# Altium footprint library con-wago.PCBLIB: 167 footprints (part 8 of 11)
Each footprint in its own frame and in the unit in brackets; x right, y up, seen from the top. Pads: shape width x height; smd on the part's side, far side on the other; paste and mask are expansions set on the pad; w line width, h text height; cw(c..) or ccw(c..) is an arc to the next point about the centre after c.
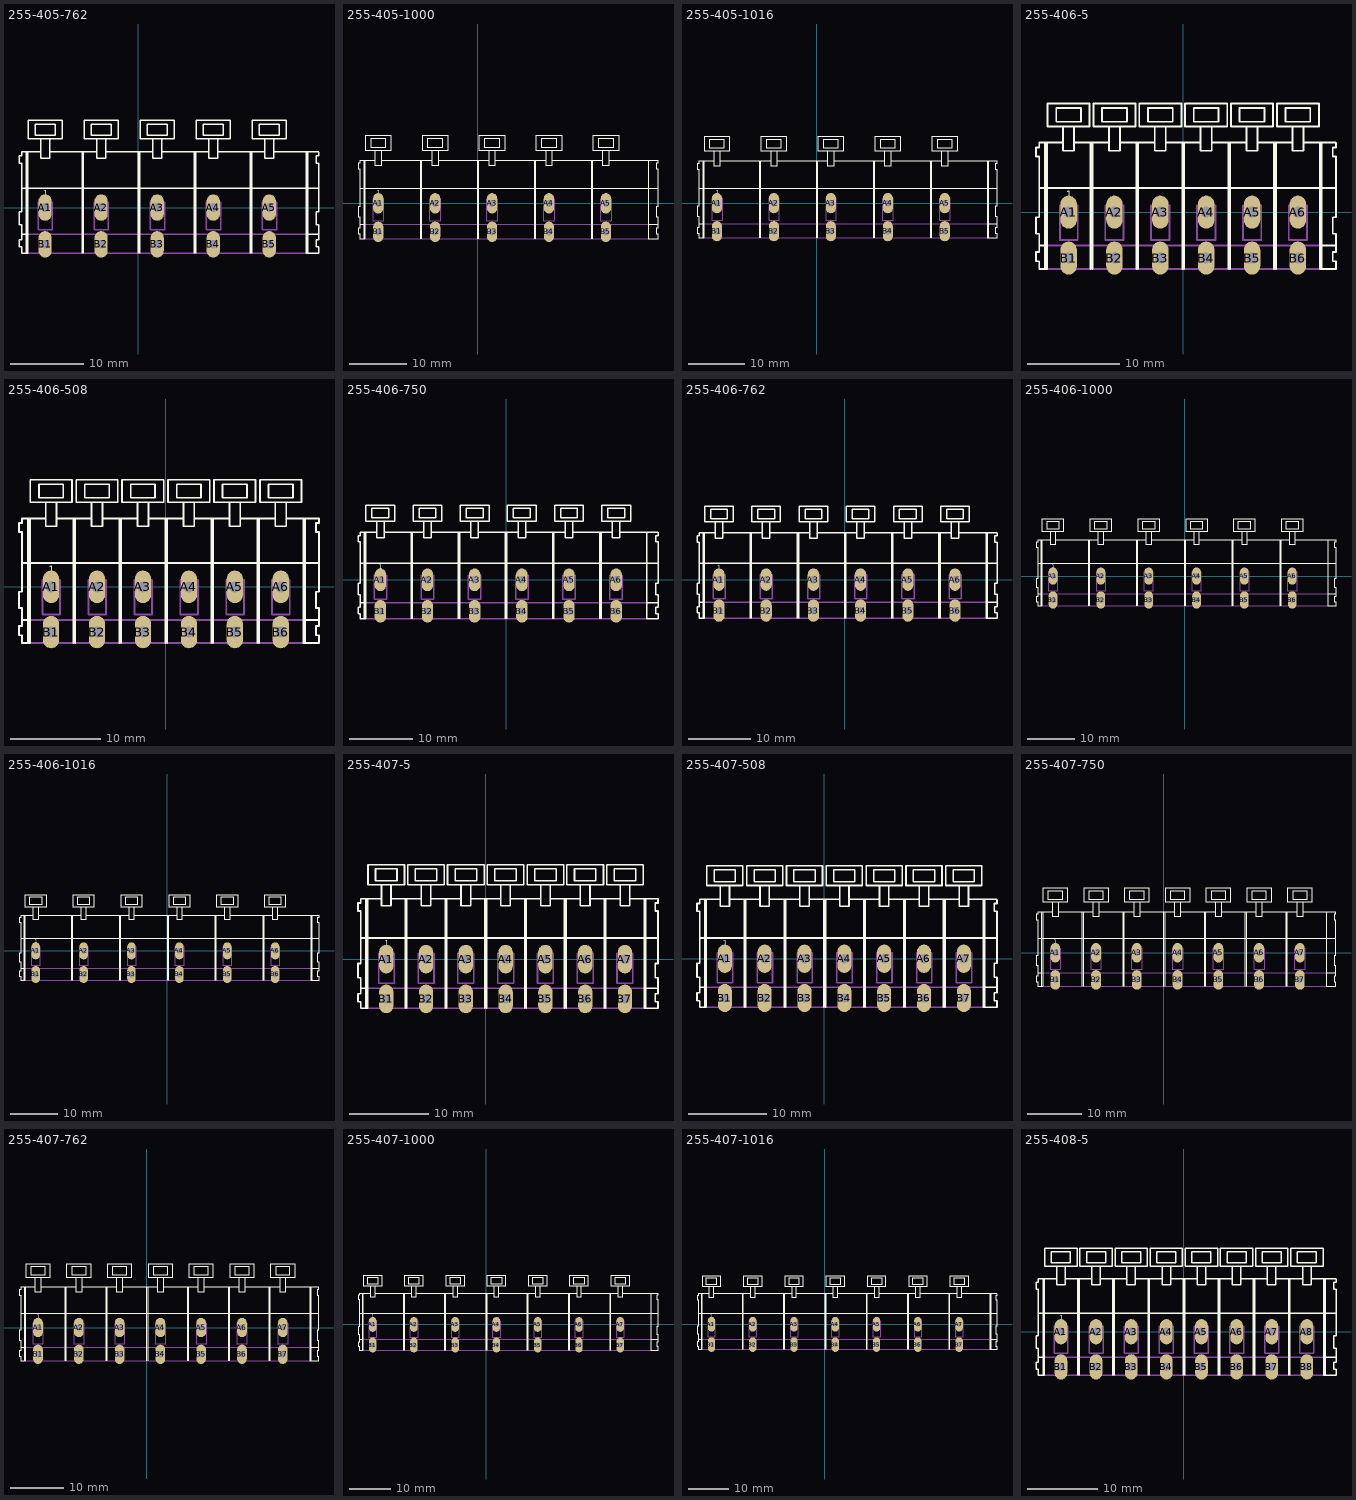
[diagram p7: the footprints below, top view; thin cyan lines are the x and y axes]

## 255-405-762 [mm]
pads (10):
  oval 1.8x3.6 hole 1.2: A1(-12.7,0) A2(-5.08,0) A3(2.54,0) A4(10.16,0) A5(17.78,0) B1(-12.7,-5) B2(-5.08,-5) B3(2.54,-5) B4(10.16,-5) B5(17.78,-5)
Top Overlay:
  lines w0.203: -15.9,-3.65 -15.2,-3.65 ; -15.85,2.65 24.5,2.65 ; -15.25,7.55 -15.25,-6.2 ; -15.05,7.55 -15.05,-6.2 -15.25,-6.2 ; -13.325,7.575 -15.9,7.575 -15.9,7.05 -16.25,7.05 -16.25,6.05 -15.9,6.05 -15.9,-0.55 -16.25,-0.55 -16.25,-2.35 -15.9,-2.35 -15.9,-4.35 -16.25,-4.35 -16.25,-5.35 -15.9,-5.35 -15.9,-6.2 -15.25,-6.2 ; -12.075,7.575 -5.701,7.575 ; -7.68,-6.2 -7.68,7.55 ; -7.48,-6.2 -7.48,7.55 ; -4.455,7.575 1.919,7.575 ; -0.06,-6.2 -0.06,7.55 ; 0.14,-6.2 0.14,7.55 ; 3.165,7.575 9.539,7.575 ; 7.56,-6.2 7.56,7.55 ; 7.76,-6.2 7.76,7.55 ; 10.785,7.575 17.159,7.575 ; 15.18,-6.2 15.18,7.55 ; 15.38,-6.2 15.38,7.55 ; 18.405,7.575 24.525,7.575 ; 22.8,7.55 22.8,-6.2 24.55,-6.2 24.55,-5.35 24.2,-5.35 24.2,-4.35 24.55,-4.35 24.55,-3.65 ; 22.85,-3.65 24.55,-3.65 ; 23,-6.2 23,7.55 ; 24.55,7.55 24.55,7.05 24.2,7.05 24.2,6.05 24.55,6.05 24.55,-0.55 24.2,-0.55 24.2,-2.35 24.55,-2.35 24.55,-3.65 ; -13.3,9.35 -15,9.35 -15,11.85 -10.4,11.85 -10.4,9.35 -12.1,9.35 ; -13.3,9.35 -12.1,9.35 ; -13.3,9.35 -13.3,6.7 -12.1,6.7 -12.1,9.35 ; -5.68,9.35 -7.38,9.35 -7.38,11.85 -2.78,11.85 -2.78,9.35 -4.48,9.35 ; -5.68,9.35 -4.48,9.35 ; -5.68,9.35 -5.68,6.7 -4.48,6.7 -4.48,9.35 ; 1.94,9.35 0.24,9.35 0.24,11.85 4.84,11.85 4.84,9.35 3.14,9.35 ; 1.94,9.35 3.14,9.35 ; 1.94,9.35 1.94,6.7 3.14,6.7 3.14,9.35 ; 9.56,9.35 7.86,9.35 7.86,11.85 12.46,11.85 12.46,9.35 10.76,9.35 ; 9.56,9.35 10.76,9.35 ; 9.56,9.35 9.56,6.7 10.76,6.7 10.76,9.35 ; 17.18,9.35 15.48,9.35 15.48,11.85 20.08,11.85 20.08,9.35 18.38,9.35 ; 17.18,9.35 18.38,9.35 ; 17.18,9.35 17.18,6.7 18.38,6.7 18.38,9.35 ; -14.05,9.85 -14.05,11.35 -11.35,11.35 -11.35,9.85 -14.05,9.85 ; -6.43,9.85 -6.43,11.35 -3.73,11.35 -3.73,9.85 -6.43,9.85 ; 1.19,9.85 1.19,11.35 3.89,11.35 3.89,9.85 1.19,9.85 ; 8.81,9.85 8.81,11.35 11.51,11.35 11.51,9.85 8.81,9.85 ; 16.43,9.85 16.43,11.35 19.13,11.35 19.13,9.85 16.43,9.85
  text "1" at -12.95,1.35 h1.26
Mechanical 16:
  lines w0.203: -15.2,-3.65 22.8,-3.65 ; -15.05,-6.2 22.8,-6.2 ; -13.65,-3.05 -13.65,0.75 -11.7,0.75 -11.7,-3.05 -13.65,-3.05 ; -6.03,-3.05 -6.03,0.75 -4.08,0.75 -4.08,-3.05 -6.03,-3.05 ; 1.59,-3.05 1.59,0.75 3.54,0.75 3.54,-3.05 1.59,-3.05 ; 9.21,-3.05 9.21,0.75 11.16,0.75 11.16,-3.05 9.21,-3.05 ; 16.83,-3.05 16.83,0.75 18.78,0.75 18.78,-3.05 16.83,-3.05

## 255-405-1000 [mm]
pads (10):
  oval 1.8x3.6 hole 1.2: A1(-17.5,0) A2(-7.5,0) A3(2.5,0) A4(12.5,0) A5(22.5,0) B1(-17.5,-5) B2(-7.5,-5) B3(2.5,-5) B4(12.5,-5) B5(22.5,-5)
Top Overlay:
  lines w0.203: -20.7,-3.65 -20,-3.65 ; -20.65,2.65 31.6,2.65 ; -20.05,7.55 -20.05,-6.2 ; -19.85,7.55 -19.85,-6.2 -20.05,-6.2 ; -18.125,7.575 -20.7,7.575 -20.7,7.05 -21.05,7.05 -21.05,6.05 -20.7,6.05 -20.7,-0.55 -21.05,-0.55 -21.05,-2.35 -20.7,-2.35 -20.7,-4.35 -21.05,-4.35 -21.05,-5.35 -20.7,-5.35 -20.7,-6.2 -20.05,-6.2 ; -16.825,7.575 -8.125,7.575 ; -10.1,-6.2 -10.1,7.55 ; -9.9,-6.2 -9.9,7.55 ; -6.825,7.575 1.875,7.575 ; -0.1,-6.2 -0.1,7.55 ; 0.1,-6.2 0.1,7.55 ; 3.175,7.575 11.875,7.575 ; 9.9,-6.2 9.9,7.55 ; 10.1,-6.2 10.1,7.55 ; 13.175,7.575 21.875,7.575 ; 19.9,-6.2 19.9,7.55 ; 20.1,-6.2 20.1,7.55 ; 23.125,7.575 31.625,7.575 ; 29.9,7.55 29.9,-6.2 31.65,-6.2 31.65,-5.35 31.3,-5.35 31.3,-4.35 31.65,-4.35 31.65,-3.65 ; 29.95,-3.65 31.65,-3.65 ; 31.65,7.55 31.65,7.05 31.3,7.05 31.3,6.05 31.65,6.05 31.65,-0.55 31.3,-0.55 31.3,-2.35 31.65,-2.35 31.65,-3.65 ; -18.1,9.35 -19.8,9.35 -19.8,11.85 -15.2,11.85 -15.2,9.35 -16.9,9.35 ; -18.1,9.35 -16.9,9.35 ; -18.1,9.35 -18.1,6.7 -16.9,6.7 -16.9,9.35 ; -8.1,9.35 -9.8,9.35 -9.8,11.85 -5.2,11.85 -5.2,9.35 -6.9,9.35 ; -8.1,9.35 -6.9,9.35 ; -8.1,9.35 -8.1,6.7 -6.9,6.7 -6.9,9.35 ; 1.9,9.35 0.2,9.35 0.2,11.85 4.8,11.85 4.8,9.35 3.1,9.35 ; 1.9,9.35 3.1,9.35 ; 1.9,9.35 1.9,6.7 3.1,6.7 3.1,9.35 ; 11.9,9.35 10.2,9.35 10.2,11.85 14.8,11.85 14.8,9.35 13.1,9.35 ; 11.9,9.35 13.1,9.35 ; 11.9,9.35 11.9,6.7 13.1,6.7 13.1,9.35 ; 21.9,9.35 20.2,9.35 20.2,11.85 24.8,11.85 24.8,9.35 23.1,9.35 ; 21.9,9.35 23.1,9.35 ; 21.9,9.35 21.9,6.7 23.1,6.7 23.1,9.35 ; -18.85,9.85 -18.85,11.35 -16.15,11.35 -16.15,9.85 -18.85,9.85 ; -8.85,9.85 -8.85,11.35 -6.15,11.35 -6.15,9.85 -8.85,9.85 ; 1.15,9.85 1.15,11.35 3.85,11.35 3.85,9.85 1.15,9.85 ; 11.15,9.85 11.15,11.35 13.85,11.35 13.85,9.85 11.15,9.85 ; 21.15,9.85 21.15,11.35 23.85,11.35 23.85,9.85 21.15,9.85
  text "1" at -17.75,1.35 h1.26
Mechanical 16:
  lines w0.203: -20,-3.65 29.9,-3.65 ; -19.85,-6.2 29.9,-6.2 ; -18.45,-3.05 -18.45,0.75 -16.5,0.75 -16.5,-3.05 -18.45,-3.05 ; -8.5,-3.05 -8.5,0.75 -6.5,0.75 -6.5,-3.05 -8.5,-3.05 ; 1.5,-3.05 1.5,0.75 3.5,0.75 3.5,-3.05 1.5,-3.05 ; 11.5,-3.05 11.5,0.75 13.5,0.75 13.5,-3.05 11.5,-3.05 ; 21.5,-3.05 21.5,0.75 23.5,0.75 23.5,-3.05 21.5,-3.05

## 255-405-1016 [mm]
pads (10):
  oval 1.8x3.6 hole 1.2: A1(-17.78,0) A2(-7.62,0) A3(2.54,0) A4(12.7,0) A5(22.86,0) B1(-17.78,-5) B2(-7.62,-5) B3(2.54,-5) B4(12.7,-5) B5(22.86,-5)
Top Overlay:
  lines w0.203: -20.98,-3.65 -20.28,-3.65 ; -20.93,2.65 32.12,2.65 ; -20.33,7.55 -20.33,-6.2 ; -20.13,7.55 -20.13,-6.2 -20.33,-6.2 ; -18.405,7.575 -20.98,7.575 -20.98,7.05 -21.33,7.05 -21.33,6.05 -20.98,6.05 -20.98,-0.55 -21.33,-0.55 -21.33,-2.35 -20.98,-2.35 -20.98,-4.35 -21.33,-4.35 -21.33,-5.35 -20.98,-5.35 -20.98,-6.2 -20.33,-6.2 ; -17.155,7.575 -8.241,7.575 ; -10.22,-6.2 -10.22,7.55 ; -10.02,-6.2 -10.02,7.55 ; -6.995,7.575 1.919,7.575 ; -0.06,-6.2 -0.06,7.55 ; 0.14,-6.2 0.14,7.55 ; 3.165,7.575 12.079,7.575 ; 10.1,-6.2 10.1,7.55 ; 10.3,-6.2 10.3,7.55 ; 13.325,7.575 22.239,7.575 ; 20.26,-6.2 20.26,7.55 ; 20.46,-6.2 20.46,7.55 ; 23.485,7.575 32.145,7.575 ; 30.42,7.55 30.42,-6.2 32.17,-6.2 32.17,-5.35 31.82,-5.35 31.82,-4.35 32.17,-4.35 32.17,-3.65 ; 30.47,-3.65 32.17,-3.65 ; 30.62,-6.2 30.62,7.55 ; 32.17,7.55 32.17,7.05 31.82,7.05 31.82,6.05 32.17,6.05 32.17,-0.55 31.82,-0.55 31.82,-2.35 32.17,-2.35 32.17,-3.65 ; -18.38,9.35 -20.08,9.35 -20.08,11.85 -15.48,11.85 -15.48,9.35 -17.18,9.35 ; -18.38,9.35 -17.18,9.35 ; -18.38,9.35 -18.38,6.7 -17.18,6.7 -17.18,9.35 ; -8.22,9.35 -9.92,9.35 -9.92,11.85 -5.32,11.85 -5.32,9.35 -7.02,9.35 ; -8.22,9.35 -7.02,9.35 ; -8.22,9.35 -8.22,6.7 -7.02,6.7 -7.02,9.35 ; 1.94,9.35 0.24,9.35 0.24,11.85 4.84,11.85 4.84,9.35 3.14,9.35 ; 1.94,9.35 3.14,9.35 ; 1.94,9.35 1.94,6.7 3.14,6.7 3.14,9.35 ; 12.1,9.35 10.4,9.35 10.4,11.85 15,11.85 15,9.35 13.3,9.35 ; 12.1,9.35 13.3,9.35 ; 12.1,9.35 12.1,6.7 13.3,6.7 13.3,9.35 ; 22.26,9.35 20.56,9.35 20.56,11.85 25.16,11.85 25.16,9.35 23.46,9.35 ; 22.26,9.35 23.46,9.35 ; 22.26,9.35 22.26,6.7 23.46,6.7 23.46,9.35 ; -19.13,9.85 -19.13,11.35 -16.43,11.35 -16.43,9.85 -19.13,9.85 ; -8.97,9.85 -8.97,11.35 -6.27,11.35 -6.27,9.85 -8.97,9.85 ; 1.19,9.85 1.19,11.35 3.89,11.35 3.89,9.85 1.19,9.85 ; 11.35,9.85 11.35,11.35 14.05,11.35 14.05,9.85 11.35,9.85 ; 21.51,9.85 21.51,11.35 24.21,11.35 24.21,9.85 21.51,9.85
  text "1" at -18.03,1.35 h1.26
Mechanical 16:
  lines w0.203: -20.28,-3.65 30.42,-3.65 ; -20.13,-6.2 30.42,-6.2 ; -18.73,-3.05 -18.73,0.75 -16.78,0.75 -16.78,-3.05 -18.73,-3.05 ; -8.57,-3.05 -8.57,0.75 -6.62,0.75 -6.62,-3.05 -8.57,-3.05 ; 1.59,-3.05 1.59,0.75 3.54,0.75 3.54,-3.05 1.59,-3.05 ; 11.75,-3.05 11.75,0.75 13.7,0.75 13.7,-3.05 11.75,-3.05 ; 21.91,-3.05 21.91,0.75 23.86,0.75 23.86,-3.05 21.91,-3.05

## 255-406-5 [mm]
pads (12):
  oval 1.8x3.6 hole 1.2: A1(-12.5,0) A2(-7.5,0) A3(-2.5,0) A4(2.5,0) A5(7.5,0) A6(12.5,0) B1(-12.5,-5) B2(-7.5,-5) B3(-2.5,-5) B4(2.5,-5) B5(7.5,-5) B6(12.5,-5)
Top Overlay:
  drawing of 156 lines, arcs and shapes, not listed
  text "1" at -12.75,1.35 h1.26
Mechanical 16:
  lines w0.203: -15,-3.65 14.9,-3.65 ; -14.85,-6.2 14.9,-6.2 ; -13.45,-3.05 -13.45,0.75 -11.5,0.75 -11.5,-3.05 -13.45,-3.05 ; -8.5,-3.05 -8.5,0.75 -6.5,0.75 -6.5,-3.05 -8.5,-3.05 ; -3.5,-3.05 -3.5,0.75 -1.5,0.75 -1.5,-3.05 -3.5,-3.05 ; 1.5,-3.05 1.5,0.75 3.5,0.75 3.5,-3.05 1.5,-3.05 ; 6.5,-3.05 6.5,0.75 8.5,0.75 8.5,-3.05 6.5,-3.05 ; 11.5,-3.05 11.5,0.75 13.5,0.75 13.5,-3.05 11.5,-3.05

## 255-406-508 [mm]
pads (12):
  oval 1.8x3.6 hole 1.2: A1(-12.7,0) A2(-7.62,0) A3(-2.54,0) A4(2.54,0) A5(7.62,0) A6(12.7,0) B1(-12.7,-5) B2(-7.62,-5) B3(-2.54,-5) B4(2.54,-5) B5(7.62,-5) B6(12.7,-5)
Top Overlay:
  lines w0.203: -15.9,-3.65 -15.2,-3.65 ; -15.85,2.65 -10.77,2.65 ; -15.25,7.55 -15.25,-6.2 ; -15.05,7.55 -15.05,-6.2 -15.25,-6.2 ; -13.325,7.575 -15.9,7.575 -15.9,7.05 -16.25,7.05 -16.25,6.05 -15.9,6.05 -15.9,-0.55 -16.25,-0.55 -16.25,-2.35 -15.9,-2.35 -15.9,-4.35 -16.25,-4.35 -16.25,-5.35 -15.9,-5.35 -15.9,-6.2 -15.25,-6.2 ; -12.075,7.575 -8.241,7.575 ; -10.22,-6.2 -10.22,2.65 ; -10.22,7.55 -10.22,2.65 ; -10.02,-6.2 -10.02,7.55 ; -6.995,7.575 -3.15,7.575 ; -5.69,2.65 -0.06,2.65 ; -5.14,-6.2 -5.14,2.65 ; -5.14,7.55 -5.14,2.65 ; -4.94,-6.2 -4.94,7.55 ; -1.915,7.575 1.93,7.575 ; -0.61,2.65 5.02,2.65 ; -0.06,-6.2 -0.06,2.65 ; -0.06,7.55 -0.06,2.65 ; 0.14,-6.2 0.14,7.55 ; 3.165,7.575 7.01,7.575 ; 4.47,2.65 10.1,2.65 ; 5.02,-6.2 5.02,2.65 ; 5.02,7.55 5.02,2.65 ; 5.22,-6.2 5.22,7.55 ; 8.245,7.575 12.09,7.575 ; 10.1,-6.2 10.1,2.65 ; 10.1,7.55 10.1,2.65 ; 10.3,-6.2 10.3,7.55 ; 13.31,7.575 16.905,7.575 ; 15.18,7.55 15.18,2.65 ; 15.23,-3.65 16.93,-3.65 ; 15.38,-6.2 15.38,7.55 ; 16.88,2.65 15.18,2.65 ; 16.93,7.55 16.93,7.05 16.58,7.05 16.58,6.05 16.93,6.05 16.93,-0.55 16.58,-0.55 16.58,-2.35 16.93,-2.35 16.93,-3.65 ; -13.3,9.35 -15,9.35 -15,11.85 -10.4,11.85 -10.4,9.35 -12.1,9.35 ; -13.3,9.35 -12.1,9.35 ; -13.3,9.35 -13.3,6.7 -12.1,6.7 -12.1,9.35 ; -10.77,2.65 -10.22,2.65 ; -10.77,2.65 -5.14,2.65 ; -10.22,2.65 -5.14,2.65 ; -8.22,9.35 -9.92,9.35 -9.92,11.85 -5.32,11.85 -5.32,9.35 -7.02,9.35 ; -8.22,9.35 -7.02,9.35 ; -8.22,9.35 -8.22,6.7 -7.02,6.7 -7.02,9.35 ; -5.14,2.65 15.18,2.65 ; -5.14,2.65 -0.06,2.65 ; -3.14,9.35 -4.84,9.35 -4.84,11.85 -0.24,11.85 -0.24,9.35 -1.94,9.35 ; -3.14,9.35 -1.94,9.35 ; -3.14,9.35 -3.14,6.7 -1.94,6.7 -1.94,9.35 ; -0.06,2.65 5.02,2.65 ; 1.94,9.35 0.24,9.35 0.24,11.85 4.84,11.85 4.84,9.35 3.14,9.35 ; 1.94,9.35 3.14,9.35 ; 1.94,9.35 1.94,6.7 3.14,6.7 3.14,9.35 ; 5.02,2.65 10.1,2.65 ; 7.02,9.35 5.32,9.35 5.32,11.85 9.92,11.85 9.92,9.35 8.22,9.35 ; 7.02,9.35 8.22,9.35 ; 7.02,9.35 7.02,6.7 8.22,6.7 8.22,9.35 ; 12.1,9.35 10.4,9.35 10.4,11.85 15,11.85 15,9.35 13.3,9.35 ; 12.1,9.35 13.3,9.35 ; 12.1,9.35 12.1,6.7 13.3,6.7 13.3,9.35 ; 15.18,2.65 15.18,-6.2 16.93,-6.2 16.93,-5.35 16.58,-5.35 16.58,-4.35 16.93,-4.35 16.93,-3.65 ; -14.05,9.85 -14.05,11.35 -11.35,11.35 -11.35,9.85 -14.05,9.85 ; -8.97,9.85 -8.97,11.35 -6.27,11.35 -6.27,9.85 -8.97,9.85 ; -3.89,9.85 -3.89,11.35 -1.19,11.35 -1.19,9.85 -3.89,9.85 ; 1.19,9.85 1.19,11.35 3.89,11.35 3.89,9.85 1.19,9.85 ; 6.27,9.85 6.27,11.35 8.97,11.35 8.97,9.85 6.27,9.85 ; 11.35,9.85 11.35,11.35 14.05,11.35 14.05,9.85 11.35,9.85
  text "1" at -12.95,1.35 h1.26
Mechanical 16:
  lines w0.203: -15.2,-3.65 15.18,-3.65 ; -15.05,-6.2 15.18,-6.2 ; -13.65,-3.05 -13.65,0.75 -11.7,0.75 -11.7,-3.05 -13.65,-3.05 ; -8.57,-3.05 -8.57,0.75 -6.62,0.75 -6.62,-3.05 -8.57,-3.05 ; -3.49,-3.05 -3.49,0.75 -1.54,0.75 -1.54,-3.05 -3.49,-3.05 ; 1.59,-3.05 1.59,0.75 3.54,0.75 3.54,-3.05 1.59,-3.05 ; 6.67,-3.05 6.67,0.75 8.62,0.75 8.62,-3.05 6.67,-3.05 ; 11.75,-3.05 11.75,0.75 13.7,0.75 13.7,-3.05 11.75,-3.05

## 255-406-750 [mm]
pads (12):
  oval 1.8x3.6 hole 1.2: A1(-20,0) A2(-12.5,0) A3(-5,0) A4(2.5,0) A5(10,0) A6(17.5,0) B1(-20,-5) B2(-12.5,-5) B3(-5,-5) B4(2.5,-5) B5(10,-5) B6(17.5,-5)
Top Overlay:
  lines w0.203: -23.2,-3.65 -22.5,-3.65 ; -23.15,2.65 24.1,2.65 ; -22.55,7.55 -22.55,-6.2 ; -22.35,7.55 -22.35,-6.2 -22.55,-6.2 ; -20.625,7.575 -23.2,7.575 -23.2,7.05 -23.55,7.05 -23.55,6.05 -23.2,6.05 -23.2,-0.55 -23.55,-0.55 -23.55,-2.35 -23.2,-2.35 -23.2,-4.35 -23.55,-4.35 -23.55,-5.35 -23.2,-5.35 -23.2,-6.2 -22.55,-6.2 ; -19.325,7.575 -13.125,7.575 ; -15.1,-6.2 -15.1,7.55 ; -14.9,-6.2 -14.9,7.55 ; -11.825,7.575 -5.625,7.575 ; -7.6,-6.2 -7.6,7.55 ; -7.4,-6.2 -7.4,7.55 ; -4.325,7.575 1.875,7.575 ; -0.1,-6.2 -0.1,7.55 ; 0.1,-6.2 0.1,7.55 ; 3.175,7.575 9.375,7.575 ; 7.4,-6.2 7.4,7.55 ; 7.6,-6.2 7.6,7.55 ; 10.675,7.575 16.875,7.575 ; 14.9,-6.2 14.9,7.55 ; 15.1,-6.2 15.1,7.55 ; 18.125,7.575 24.125,7.575 ; 22.4,7.55 22.4,-6.2 24.15,-6.2 24.15,-5.35 23.8,-5.35 23.8,-4.35 24.15,-4.35 24.15,-3.65 ; 22.45,-3.65 24.15,-3.65 ; 24.15,7.55 24.15,7.05 23.8,7.05 23.8,6.05 24.15,6.05 24.15,-0.55 23.8,-0.55 23.8,-2.35 24.15,-2.35 24.15,-3.65 ; -20.6,9.35 -22.3,9.35 -22.3,11.85 -17.7,11.85 -17.7,9.35 -19.4,9.35 ; -20.6,9.35 -19.4,9.35 ; -20.6,9.35 -20.6,6.7 -19.4,6.7 -19.4,9.35 ; -13.1,9.35 -14.8,9.35 -14.8,11.85 -10.2,11.85 -10.2,9.35 -11.9,9.35 ; -13.1,9.35 -11.9,9.35 ; -13.1,9.35 -13.1,6.7 -11.9,6.7 -11.9,9.35 ; -5.6,9.35 -7.3,9.35 -7.3,11.85 -2.7,11.85 -2.7,9.35 -4.4,9.35 ; -5.6,9.35 -4.4,9.35 ; -5.6,9.35 -5.6,6.7 -4.4,6.7 -4.4,9.35 ; 1.9,9.35 0.2,9.35 0.2,11.85 4.8,11.85 4.8,9.35 3.1,9.35 ; 1.9,9.35 3.1,9.35 ; 1.9,9.35 1.9,6.7 3.1,6.7 3.1,9.35 ; 9.4,9.35 7.7,9.35 7.7,11.85 12.3,11.85 12.3,9.35 10.6,9.35 ; 9.4,9.35 10.6,9.35 ; 9.4,9.35 9.4,6.7 10.6,6.7 10.6,9.35 ; 16.9,9.35 15.2,9.35 15.2,11.85 19.8,11.85 19.8,9.35 18.1,9.35 ; 16.9,9.35 18.1,9.35 ; 16.9,9.35 16.9,6.7 18.1,6.7 18.1,9.35 ; -21.35,9.85 -21.35,11.35 -18.65,11.35 -18.65,9.85 -21.35,9.85 ; -13.85,9.85 -13.85,11.35 -11.15,11.35 -11.15,9.85 -13.85,9.85 ; -6.35,9.85 -6.35,11.35 -3.65,11.35 -3.65,9.85 -6.35,9.85 ; 1.15,9.85 1.15,11.35 3.85,11.35 3.85,9.85 1.15,9.85 ; 8.65,9.85 8.65,11.35 11.35,11.35 11.35,9.85 8.65,9.85 ; 16.15,9.85 16.15,11.35 18.85,11.35 18.85,9.85 16.15,9.85
  text "1" at -20.25,1.35 h1.26
Mechanical 16:
  lines w0.203: -22.5,-3.65 22.4,-3.65 ; -22.35,-6.2 22.4,-6.2 ; -20.95,-3.05 -20.95,0.75 -19,0.75 -19,-3.05 -20.95,-3.05 ; -13.5,-3.05 -13.5,0.75 -11.5,0.75 -11.5,-3.05 -13.5,-3.05 ; -6,-3.05 -6,0.75 -4,0.75 -4,-3.05 -6,-3.05 ; 1.5,-3.05 1.5,0.75 3.5,0.75 3.5,-3.05 1.5,-3.05 ; 9,-3.05 9,0.75 11,0.75 11,-3.05 9,-3.05 ; 16.5,-3.05 16.5,0.75 18.5,0.75 18.5,-3.05 16.5,-3.05

## 255-406-762 [mm]
pads (12):
  oval 1.8x3.6 hole 1.2: A1(-20.32,0) A2(-12.7,0) A3(-5.08,0) A4(2.54,0) A5(10.16,0) A6(17.78,0) B1(-20.32,-5) B2(-12.7,-5) B3(-5.08,-5) B4(2.54,-5) B5(10.16,-5) B6(17.78,-5)
Top Overlay:
  lines w0.203: -23.52,-3.65 -22.82,-3.65 ; -23.47,2.65 24.5,2.65 ; -22.87,7.55 -22.87,-6.2 ; -22.67,7.55 -22.67,-6.2 -22.87,-6.2 ; -20.945,7.575 -23.52,7.575 -23.52,7.05 -23.87,7.05 -23.87,6.05 -23.52,6.05 -23.52,-0.55 -23.87,-0.55 -23.87,-2.35 -23.52,-2.35 -23.52,-4.35 -23.87,-4.35 -23.87,-5.35 -23.52,-5.35 -23.52,-6.2 -22.87,-6.2 ; -19.695,7.575 -13.321,7.575 ; -15.3,-6.2 -15.3,7.55 ; -15.1,-6.2 -15.1,7.55 ; -12.075,7.575 -5.701,7.575 ; -7.68,-6.2 -7.68,7.55 ; -7.48,-6.2 -7.48,7.55 ; -4.455,7.575 1.919,7.575 ; -0.06,-6.2 -0.06,7.55 ; 0.14,-6.2 0.14,7.55 ; 3.165,7.575 9.539,7.575 ; 7.56,-6.2 7.56,7.55 ; 7.76,-6.2 7.76,7.55 ; 10.785,7.575 17.159,7.575 ; 15.18,-6.2 15.18,7.55 ; 15.38,-6.2 15.38,7.55 ; 18.405,7.575 24.525,7.575 ; 22.8,7.55 22.8,-6.2 24.55,-6.2 24.55,-5.35 24.2,-5.35 24.2,-4.35 24.55,-4.35 24.55,-3.65 ; 22.85,-3.65 24.55,-3.65 ; 23,-6.2 23,7.55 ; 24.55,7.55 24.55,7.05 24.2,7.05 24.2,6.05 24.55,6.05 24.55,-0.55 24.2,-0.55 24.2,-2.35 24.55,-2.35 24.55,-3.65 ; -20.92,9.35 -22.62,9.35 -22.62,11.85 -18.02,11.85 -18.02,9.35 -19.72,9.35 ; -20.92,9.35 -19.72,9.35 ; -20.92,9.35 -20.92,6.7 -19.72,6.7 -19.72,9.35 ; -13.3,9.35 -15,9.35 -15,11.85 -10.4,11.85 -10.4,9.35 -12.1,9.35 ; -13.3,9.35 -12.1,9.35 ; -13.3,9.35 -13.3,6.7 -12.1,6.7 -12.1,9.35 ; -5.68,9.35 -7.38,9.35 -7.38,11.85 -2.78,11.85 -2.78,9.35 -4.48,9.35 ; -5.68,9.35 -4.48,9.35 ; -5.68,9.35 -5.68,6.7 -4.48,6.7 -4.48,9.35 ; 1.94,9.35 0.24,9.35 0.24,11.85 4.84,11.85 4.84,9.35 3.14,9.35 ; 1.94,9.35 3.14,9.35 ; 1.94,9.35 1.94,6.7 3.14,6.7 3.14,9.35 ; 9.56,9.35 7.86,9.35 7.86,11.85 12.46,11.85 12.46,9.35 10.76,9.35 ; 9.56,9.35 10.76,9.35 ; 9.56,9.35 9.56,6.7 10.76,6.7 10.76,9.35 ; 17.18,9.35 15.48,9.35 15.48,11.85 20.08,11.85 20.08,9.35 18.38,9.35 ; 17.18,9.35 18.38,9.35 ; 17.18,9.35 17.18,6.7 18.38,6.7 18.38,9.35 ; -21.67,9.85 -21.67,11.35 -18.97,11.35 -18.97,9.85 -21.67,9.85 ; -14.05,9.85 -14.05,11.35 -11.35,11.35 -11.35,9.85 -14.05,9.85 ; -6.43,9.85 -6.43,11.35 -3.73,11.35 -3.73,9.85 -6.43,9.85 ; 1.19,9.85 1.19,11.35 3.89,11.35 3.89,9.85 1.19,9.85 ; 8.81,9.85 8.81,11.35 11.51,11.35 11.51,9.85 8.81,9.85 ; 16.43,9.85 16.43,11.35 19.13,11.35 19.13,9.85 16.43,9.85
  text "1" at -20.57,1.35 h1.26
Mechanical 16:
  lines w0.203: -22.82,-3.65 22.8,-3.65 ; -22.67,-6.2 22.8,-6.2 ; -21.27,-3.05 -21.27,0.75 -19.32,0.75 -19.32,-3.05 -21.27,-3.05 ; -13.65,-3.05 -13.65,0.75 -11.7,0.75 -11.7,-3.05 -13.65,-3.05 ; -6.03,-3.05 -6.03,0.75 -4.08,0.75 -4.08,-3.05 -6.03,-3.05 ; 1.59,-3.05 1.59,0.75 3.54,0.75 3.54,-3.05 1.59,-3.05 ; 9.21,-3.05 9.21,0.75 11.16,0.75 11.16,-3.05 9.21,-3.05 ; 16.83,-3.05 16.83,0.75 18.78,0.75 18.78,-3.05 16.83,-3.05

## 255-406-1000 [mm]
pads (12):
  oval 1.8x3.6 hole 1.2: A1(-27.5,0) A2(-17.5,0) A3(-7.5,0) A4(2.5,0) A5(12.5,0) A6(22.5,0) B1(-27.5,-5) B2(-17.5,-5) B3(-7.5,-5) B4(2.5,-5) B5(12.5,-5) B6(22.5,-5)
Top Overlay:
  lines w0.203: -30.7,-3.65 -30,-3.65 ; -30.65,2.65 31.6,2.65 ; -30.05,7.55 -30.05,-6.2 ; -29.85,7.55 -29.85,-6.2 -30.05,-6.2 ; -28.125,7.575 -30.7,7.575 -30.7,7.05 -31.05,7.05 -31.05,6.05 -30.7,6.05 -30.7,-0.55 -31.05,-0.55 -31.05,-2.35 -30.7,-2.35 -30.7,-4.35 -31.05,-4.35 -31.05,-5.35 -30.7,-5.35 -30.7,-6.2 -30.05,-6.2 ; -26.825,7.575 -18.125,7.575 ; -20.1,-6.2 -20.1,7.55 ; -19.9,-6.2 -19.9,7.55 ; -16.825,7.575 -8.125,7.575 ; -10.1,-6.2 -10.1,7.55 ; -9.9,-6.2 -9.9,7.55 ; -6.825,7.575 1.875,7.575 ; -0.1,-6.2 -0.1,7.55 ; 0.1,-6.2 0.1,7.55 ; 3.175,7.575 11.875,7.575 ; 9.9,-6.2 9.9,7.55 ; 10.1,-6.2 10.1,7.55 ; 13.175,7.575 21.875,7.575 ; 19.9,-6.2 19.9,7.55 ; 20.1,-6.2 20.1,7.55 ; 23.125,7.575 31.625,7.575 ; 29.9,7.55 29.9,-6.2 31.65,-6.2 31.65,-5.35 31.3,-5.35 31.3,-4.35 31.65,-4.35 31.65,-3.65 ; 29.95,-3.65 31.65,-3.65 ; 31.65,7.55 31.65,7.05 31.3,7.05 31.3,6.05 31.65,6.05 31.65,-0.55 31.3,-0.55 31.3,-2.35 31.65,-2.35 31.65,-3.65 ; -28.1,9.35 -29.8,9.35 -29.8,11.85 -25.2,11.85 -25.2,9.35 -26.9,9.35 ; -28.1,9.35 -26.9,9.35 ; -28.1,9.35 -28.1,6.7 -26.9,6.7 -26.9,9.35 ; -18.1,9.35 -19.8,9.35 -19.8,11.85 -15.2,11.85 -15.2,9.35 -16.9,9.35 ; -18.1,9.35 -16.9,9.35 ; -18.1,9.35 -18.1,6.7 -16.9,6.7 -16.9,9.35 ; -8.1,9.35 -9.8,9.35 -9.8,11.85 -5.2,11.85 -5.2,9.35 -6.9,9.35 ; -8.1,9.35 -6.9,9.35 ; -8.1,9.35 -8.1,6.7 -6.9,6.7 -6.9,9.35 ; 1.9,9.35 0.2,9.35 0.2,11.85 4.8,11.85 4.8,9.35 3.1,9.35 ; 1.9,9.35 3.1,9.35 ; 1.9,9.35 1.9,6.7 3.1,6.7 3.1,9.35 ; 11.9,9.35 10.2,9.35 10.2,11.85 14.8,11.85 14.8,9.35 13.1,9.35 ; 11.9,9.35 13.1,9.35 ; 11.9,9.35 11.9,6.7 13.1,6.7 13.1,9.35 ; 21.9,9.35 20.2,9.35 20.2,11.85 24.8,11.85 24.8,9.35 23.1,9.35 ; 21.9,9.35 23.1,9.35 ; 21.9,9.35 21.9,6.7 23.1,6.7 23.1,9.35 ; -28.85,9.85 -28.85,11.35 -26.15,11.35 -26.15,9.85 -28.85,9.85 ; -18.85,9.85 -18.85,11.35 -16.15,11.35 -16.15,9.85 -18.85,9.85 ; -8.85,9.85 -8.85,11.35 -6.15,11.35 -6.15,9.85 -8.85,9.85 ; 1.15,9.85 1.15,11.35 3.85,11.35 3.85,9.85 1.15,9.85 ; 11.15,9.85 11.15,11.35 13.85,11.35 13.85,9.85 11.15,9.85 ; 21.15,9.85 21.15,11.35 23.85,11.35 23.85,9.85 21.15,9.85
  text "1" at -27.75,1.35 h1.26
Mechanical 16:
  lines w0.203: -30,-3.65 29.9,-3.65 ; -29.85,-6.2 29.9,-6.2 ; -28.45,-3.05 -28.45,0.75 -26.5,0.75 -26.5,-3.05 -28.45,-3.05 ; -18.5,-3.05 -18.5,0.75 -16.5,0.75 -16.5,-3.05 -18.5,-3.05 ; -8.5,-3.05 -8.5,0.75 -6.5,0.75 -6.5,-3.05 -8.5,-3.05 ; 1.5,-3.05 1.5,0.75 3.5,0.75 3.5,-3.05 1.5,-3.05 ; 11.5,-3.05 11.5,0.75 13.5,0.75 13.5,-3.05 11.5,-3.05 ; 21.5,-3.05 21.5,0.75 23.5,0.75 23.5,-3.05 21.5,-3.05

## 255-406-1016 [mm]
pads (12):
  oval 1.8x3.6 hole 1.2: A1(-27.94,0) A2(-17.78,0) A3(-7.62,0) A4(2.54,0) A5(12.7,0) A6(22.86,0) B1(-27.94,-5) B2(-17.78,-5) B3(-7.62,-5) B4(2.54,-5) B5(12.7,-5) B6(22.86,-5)
Top Overlay:
  lines w0.203: -31.14,-3.65 -30.44,-3.65 ; -31.09,2.65 32.12,2.65 ; -30.49,7.55 -30.49,-6.2 ; -30.29,7.55 -30.29,-6.2 -30.49,-6.2 ; -28.565,7.575 -31.14,7.575 -31.14,7.05 -31.49,7.05 -31.49,6.05 -31.14,6.05 -31.14,-0.55 -31.49,-0.55 -31.49,-2.35 -31.14,-2.35 -31.14,-4.35 -31.49,-4.35 -31.49,-5.35 -31.14,-5.35 -31.14,-6.2 -30.49,-6.2 ; -27.315,7.575 -18.401,7.575 ; -20.38,-6.2 -20.38,7.55 ; -20.18,-6.2 -20.18,7.55 ; -17.155,7.575 -8.241,7.575 ; -10.22,-6.2 -10.22,7.55 ; -10.02,-6.2 -10.02,7.55 ; -6.995,7.575 1.919,7.575 ; -0.06,-6.2 -0.06,7.55 ; 0.14,-6.2 0.14,7.55 ; 3.165,7.575 12.079,7.575 ; 10.1,-6.2 10.1,7.55 ; 10.3,-6.2 10.3,7.55 ; 13.325,7.575 22.239,7.575 ; 20.26,-6.2 20.26,7.55 ; 20.46,-6.2 20.46,7.55 ; 23.485,7.575 32.145,7.575 ; 30.42,7.55 30.42,-6.2 32.17,-6.2 32.17,-5.35 31.82,-5.35 31.82,-4.35 32.17,-4.35 32.17,-3.65 ; 30.47,-3.65 32.17,-3.65 ; 30.62,-6.2 30.62,7.55 ; 32.17,7.55 32.17,7.05 31.82,7.05 31.82,6.05 32.17,6.05 32.17,-0.55 31.82,-0.55 31.82,-2.35 32.17,-2.35 32.17,-3.65 ; -28.54,9.35 -30.24,9.35 -30.24,11.85 -25.64,11.85 -25.64,9.35 -27.34,9.35 ; -28.54,9.35 -27.34,9.35 ; -28.54,9.35 -28.54,6.7 -27.34,6.7 -27.34,9.35 ; -18.38,9.35 -20.08,9.35 -20.08,11.85 -15.48,11.85 -15.48,9.35 -17.18,9.35 ; -18.38,9.35 -17.18,9.35 ; -18.38,9.35 -18.38,6.7 -17.18,6.7 -17.18,9.35 ; -8.22,9.35 -9.92,9.35 -9.92,11.85 -5.32,11.85 -5.32,9.35 -7.02,9.35 ; -8.22,9.35 -7.02,9.35 ; -8.22,9.35 -8.22,6.7 -7.02,6.7 -7.02,9.35 ; 1.94,9.35 0.24,9.35 0.24,11.85 4.84,11.85 4.84,9.35 3.14,9.35 ; 1.94,9.35 3.14,9.35 ; 1.94,9.35 1.94,6.7 3.14,6.7 3.14,9.35 ; 12.1,9.35 10.4,9.35 10.4,11.85 15,11.85 15,9.35 13.3,9.35 ; 12.1,9.35 13.3,9.35 ; 12.1,9.35 12.1,6.7 13.3,6.7 13.3,9.35 ; 22.26,9.35 20.56,9.35 20.56,11.85 25.16,11.85 25.16,9.35 23.46,9.35 ; 22.26,9.35 23.46,9.35 ; 22.26,9.35 22.26,6.7 23.46,6.7 23.46,9.35 ; -29.29,9.85 -29.29,11.35 -26.59,11.35 -26.59,9.85 -29.29,9.85 ; -19.13,9.85 -19.13,11.35 -16.43,11.35 -16.43,9.85 -19.13,9.85 ; -8.97,9.85 -8.97,11.35 -6.27,11.35 -6.27,9.85 -8.97,9.85 ; 1.19,9.85 1.19,11.35 3.89,11.35 3.89,9.85 1.19,9.85 ; 11.35,9.85 11.35,11.35 14.05,11.35 14.05,9.85 11.35,9.85 ; 21.51,9.85 21.51,11.35 24.21,11.35 24.21,9.85 21.51,9.85
  text "1" at -28.19,1.35 h1.26
Mechanical 16:
  lines w0.203: -30.44,-3.65 30.42,-3.65 ; -30.29,-6.2 30.42,-6.2 ; -28.89,-3.05 -28.89,0.75 -26.94,0.75 -26.94,-3.05 -28.89,-3.05 ; -18.73,-3.05 -18.73,0.75 -16.78,0.75 -16.78,-3.05 -18.73,-3.05 ; -8.57,-3.05 -8.57,0.75 -6.62,0.75 -6.62,-3.05 -8.57,-3.05 ; 1.59,-3.05 1.59,0.75 3.54,0.75 3.54,-3.05 1.59,-3.05 ; 11.75,-3.05 11.75,0.75 13.7,0.75 13.7,-3.05 11.75,-3.05 ; 21.91,-3.05 21.91,0.75 23.86,0.75 23.86,-3.05 21.91,-3.05

## 255-407-5 [mm]
pads (14):
  oval 1.8x3.6 hole 1.2: A1(-12.5,0) A2(-7.5,0) A3(-2.5,0) A4(2.5,0) A5(7.5,0) A6(12.5,0) A7(17.5,0) B1(-12.5,-5) B2(-7.5,-5) B3(-2.5,-5) B4(2.5,-5) B5(7.5,-5) B6(12.5,-5) B7(17.5,-5)
Top Overlay:
  drawing of 176 lines, arcs and shapes, not listed
  text "1" at -12.75,1.35 h1.26
Mechanical 16:
  lines w0.203: -15,-3.65 19.9,-3.65 ; -14.85,-6.2 19.9,-6.2 ; -13.45,-3.05 -13.45,0.75 -11.5,0.75 -11.5,-3.05 -13.45,-3.05 ; -8.5,-3.05 -8.5,0.75 -6.5,0.75 -6.5,-3.05 -8.5,-3.05 ; -3.5,-3.05 -3.5,0.75 -1.5,0.75 -1.5,-3.05 -3.5,-3.05 ; 1.5,-3.05 1.5,0.75 3.5,0.75 3.5,-3.05 1.5,-3.05 ; 6.5,-3.05 6.5,0.75 8.5,0.75 8.5,-3.05 6.5,-3.05 ; 11.5,-3.05 11.5,0.75 13.5,0.75 13.5,-3.05 11.5,-3.05 ; 16.5,-3.05 16.5,0.75 18.5,0.75 18.5,-3.05 16.5,-3.05

## 255-407-508 [mm]
pads (14):
  oval 1.8x3.6 hole 1.2: A1(-12.7,0) A2(-7.62,0) A3(-2.54,0) A4(2.54,0) A5(7.62,0) A6(12.7,0) A7(17.78,0) B1(-12.7,-5) B2(-7.62,-5) B3(-2.54,-5) B4(2.54,-5) B5(7.62,-5) B6(12.7,-5) B7(17.78,-5)
Top Overlay:
  drawing of 168 lines, arcs and shapes, not listed
  text "1" at -12.95,1.35 h1.26
Mechanical 16:
  lines w0.203: -15.2,-3.65 20.26,-3.65 ; -15.05,-6.2 20.26,-6.2 ; -13.65,-3.05 -13.65,0.75 -11.7,0.75 -11.7,-3.05 -13.65,-3.05 ; -8.57,-3.05 -8.57,0.75 -6.62,0.75 -6.62,-3.05 -8.57,-3.05 ; -3.49,-3.05 -3.49,0.75 -1.54,0.75 -1.54,-3.05 -3.49,-3.05 ; 1.59,-3.05 1.59,0.75 3.54,0.75 3.54,-3.05 1.59,-3.05 ; 6.67,-3.05 6.67,0.75 8.62,0.75 8.62,-3.05 6.67,-3.05 ; 11.75,-3.05 11.75,0.75 13.7,0.75 13.7,-3.05 11.75,-3.05 ; 16.83,-3.05 16.83,0.75 18.78,0.75 18.78,-3.05 16.83,-3.05

## 255-407-750 [mm]
pads (14):
  oval 1.8x3.6 hole 1.2: A1(-20,0) A2(-12.5,0) A3(-5,0) A4(2.5,0) A5(10,0) A6(17.5,0) A7(25,0) B1(-20,-5) B2(-12.5,-5) B3(-5,-5) B4(2.5,-5) B5(10,-5) B6(17.5,-5) B7(25,-5)
Top Overlay:
  lines w0.203: -23.2,-3.65 -22.5,-3.65 ; -23.15,2.65 31.6,2.65 ; -22.55,7.55 -22.55,-6.2 ; -22.35,7.55 -22.35,-6.2 -22.55,-6.2 ; -20.625,7.575 -23.2,7.575 -23.2,7.05 -23.55,7.05 -23.55,6.05 -23.2,6.05 -23.2,-0.55 -23.55,-0.55 -23.55,-2.35 -23.2,-2.35 -23.2,-4.35 -23.55,-4.35 -23.55,-5.35 -23.2,-5.35 -23.2,-6.2 -22.55,-6.2 ; -19.325,7.575 -13.125,7.575 ; -15.1,-6.2 -15.1,7.55 ; -14.9,-6.2 -14.9,7.55 ; -11.825,7.575 -5.625,7.575 ; -7.6,-6.2 -7.6,7.55 ; -7.4,-6.2 -7.4,7.55 ; -4.325,7.575 1.875,7.575 ; -0.1,-6.2 -0.1,7.55 ; 0.1,-6.2 0.1,7.55 ; 3.175,7.575 9.375,7.575 ; 7.4,-6.2 7.4,7.55 ; 7.6,-6.2 7.6,7.55 ; 10.675,7.575 16.875,7.575 ; 14.9,-6.2 14.9,7.55 ; 15.1,-6.2 15.1,7.55 ; 18.175,7.575 24.375,7.575 ; 22.4,-6.2 22.4,7.55 ; 22.6,-6.2 22.6,7.55 ; 25.625,7.575 31.625,7.575 ; 29.9,7.55 29.9,-6.2 31.65,-6.2 31.65,-5.35 31.3,-5.35 31.3,-4.35 31.65,-4.35 31.65,-3.65 ; 29.95,-3.65 31.65,-3.65 ; 31.65,7.55 31.65,7.05 31.3,7.05 31.3,6.05 31.65,6.05 31.65,-0.55 31.3,-0.55 31.3,-2.35 31.65,-2.35 31.65,-3.65 ; -20.6,9.35 -22.3,9.35 -22.3,11.85 -17.7,11.85 -17.7,9.35 -19.4,9.35 ; -20.6,9.35 -19.4,9.35 ; -20.6,9.35 -20.6,6.7 -19.4,6.7 -19.4,9.35 ; -13.1,9.35 -14.8,9.35 -14.8,11.85 -10.2,11.85 -10.2,9.35 -11.9,9.35 ; -13.1,9.35 -11.9,9.35 ; -13.1,9.35 -13.1,6.7 -11.9,6.7 -11.9,9.35 ; -5.6,9.35 -7.3,9.35 -7.3,11.85 -2.7,11.85 -2.7,9.35 -4.4,9.35 ; -5.6,9.35 -4.4,9.35 ; -5.6,9.35 -5.6,6.7 -4.4,6.7 -4.4,9.35 ; 1.9,9.35 0.2,9.35 0.2,11.85 4.8,11.85 4.8,9.35 3.1,9.35 ; 1.9,9.35 3.1,9.35 ; 1.9,9.35 1.9,6.7 3.1,6.7 3.1,9.35 ; 9.4,9.35 7.7,9.35 7.7,11.85 12.3,11.85 12.3,9.35 10.6,9.35 ; 9.4,9.35 10.6,9.35 ; 9.4,9.35 9.4,6.7 10.6,6.7 10.6,9.35 ; 16.9,9.35 15.2,9.35 15.2,11.85 19.8,11.85 19.8,9.35 18.1,9.35 ; 16.9,9.35 18.1,9.35 ; 16.9,9.35 16.9,6.7 18.1,6.7 18.1,9.35 ; 24.4,9.35 22.7,9.35 22.7,11.85 27.3,11.85 27.3,9.35 25.6,9.35 ; 24.4,9.35 25.6,9.35 ; 24.4,9.35 24.4,6.7 25.6,6.7 25.6,9.35 ; -21.35,9.85 -21.35,11.35 -18.65,11.35 -18.65,9.85 -21.35,9.85 ; -13.85,9.85 -13.85,11.35 -11.15,11.35 -11.15,9.85 -13.85,9.85 ; -6.35,9.85 -6.35,11.35 -3.65,11.35 -3.65,9.85 -6.35,9.85 ; 1.15,9.85 1.15,11.35 3.85,11.35 3.85,9.85 1.15,9.85 ; 8.65,9.85 8.65,11.35 11.35,11.35 11.35,9.85 8.65,9.85 ; 16.15,9.85 16.15,11.35 18.85,11.35 18.85,9.85 16.15,9.85 ; 23.65,9.85 23.65,11.35 26.35,11.35 26.35,9.85 23.65,9.85
  text "1" at -20.25,1.35 h1.26
Mechanical 16:
  lines w0.203: -22.5,-3.65 29.9,-3.65 ; -22.35,-6.2 29.9,-6.2 ; -20.95,-3.05 -20.95,0.75 -19,0.75 -19,-3.05 -20.95,-3.05 ; -13.5,-3.05 -13.5,0.75 -11.5,0.75 -11.5,-3.05 -13.5,-3.05 ; -6,-3.05 -6,0.75 -4,0.75 -4,-3.05 -6,-3.05 ; 1.5,-3.05 1.5,0.75 3.5,0.75 3.5,-3.05 1.5,-3.05 ; 9,-3.05 9,0.75 11,0.75 11,-3.05 9,-3.05 ; 16.5,-3.05 16.5,0.75 18.5,0.75 18.5,-3.05 16.5,-3.05 ; 24,-3.05 24,0.75 26,0.75 26,-3.05 24,-3.05

## 255-407-762 [mm]
pads (14):
  oval 1.8x3.6 hole 1.2: A1(-20.32,0) A2(-12.7,0) A3(-5.08,0) A4(2.54,0) A5(10.16,0) A6(17.78,0) A7(25.4,0) B1(-20.32,-5) B2(-12.7,-5) B3(-5.08,-5) B4(2.54,-5) B5(10.16,-5) B6(17.78,-5) B7(25.4,-5)
Top Overlay:
  lines w0.203: -23.52,-3.65 -22.82,-3.65 ; -23.47,2.65 32.12,2.65 ; -22.87,7.55 -22.87,-6.2 ; -22.67,7.55 -22.67,-6.2 -22.87,-6.2 ; -20.945,7.575 -23.52,7.575 -23.52,7.05 -23.87,7.05 -23.87,6.05 -23.52,6.05 -23.52,-0.55 -23.87,-0.55 -23.87,-2.35 -23.52,-2.35 -23.52,-4.35 -23.87,-4.35 -23.87,-5.35 -23.52,-5.35 -23.52,-6.2 -22.87,-6.2 ; -19.695,7.575 -13.321,7.575 ; -15.3,-6.2 -15.3,7.55 ; -15.1,-6.2 -15.1,7.55 ; -12.075,7.575 -5.701,7.575 ; -7.68,-6.2 -7.68,7.55 ; -7.48,-6.2 -7.48,7.55 ; -4.455,7.575 1.919,7.575 ; -0.06,-6.2 -0.06,7.55 ; 0.14,-6.2 0.14,7.55 ; 3.165,7.575 9.539,7.575 ; 7.56,-6.2 7.56,7.55 ; 7.76,-6.2 7.76,7.55 ; 10.785,7.575 17.159,7.575 ; 15.18,-6.2 15.18,7.55 ; 15.38,-6.2 15.38,7.55 ; 18.405,7.575 24.779,7.575 ; 22.8,-6.2 22.8,7.55 ; 23,-6.2 23,7.55 ; 26.025,7.575 32.145,7.575 ; 30.42,7.55 30.42,-6.2 32.17,-6.2 32.17,-5.35 31.82,-5.35 31.82,-4.35 32.17,-4.35 32.17,-3.65 ; 30.47,-3.65 32.17,-3.65 ; 30.62,-6.2 30.62,7.55 ; 32.17,7.55 32.17,7.05 31.82,7.05 31.82,6.05 32.17,6.05 32.17,-0.55 31.82,-0.55 31.82,-2.35 32.17,-2.35 32.17,-3.65 ; -20.92,9.35 -22.62,9.35 -22.62,11.85 -18.02,11.85 -18.02,9.35 -19.72,9.35 ; -20.92,9.35 -19.72,9.35 ; -20.92,9.35 -20.92,6.7 -19.72,6.7 -19.72,9.35 ; -13.3,9.35 -15,9.35 -15,11.85 -10.4,11.85 -10.4,9.35 -12.1,9.35 ; -13.3,9.35 -12.1,9.35 ; -13.3,9.35 -13.3,6.7 -12.1,6.7 -12.1,9.35 ; -5.68,9.35 -7.38,9.35 -7.38,11.85 -2.78,11.85 -2.78,9.35 -4.48,9.35 ; -5.68,9.35 -4.48,9.35 ; -5.68,9.35 -5.68,6.7 -4.48,6.7 -4.48,9.35 ; 1.94,9.35 0.24,9.35 0.24,11.85 4.84,11.85 4.84,9.35 3.14,9.35 ; 1.94,9.35 3.14,9.35 ; 1.94,9.35 1.94,6.7 3.14,6.7 3.14,9.35 ; 9.56,9.35 7.86,9.35 7.86,11.85 12.46,11.85 12.46,9.35 10.76,9.35 ; 9.56,9.35 10.76,9.35 ; 9.56,9.35 9.56,6.7 10.76,6.7 10.76,9.35 ; 17.18,9.35 15.48,9.35 15.48,11.85 20.08,11.85 20.08,9.35 18.38,9.35 ; 17.18,9.35 18.38,9.35 ; 17.18,9.35 17.18,6.7 18.38,6.7 18.38,9.35 ; 24.8,9.35 23.1,9.35 23.1,11.85 27.7,11.85 27.7,9.35 26,9.35 ; 24.8,9.35 26,9.35 ; 24.8,9.35 24.8,6.7 26,6.7 26,9.35 ; -21.67,9.85 -21.67,11.35 -18.97,11.35 -18.97,9.85 -21.67,9.85 ; -14.05,9.85 -14.05,11.35 -11.35,11.35 -11.35,9.85 -14.05,9.85 ; -6.43,9.85 -6.43,11.35 -3.73,11.35 -3.73,9.85 -6.43,9.85 ; 1.19,9.85 1.19,11.35 3.89,11.35 3.89,9.85 1.19,9.85 ; 8.81,9.85 8.81,11.35 11.51,11.35 11.51,9.85 8.81,9.85 ; 16.43,9.85 16.43,11.35 19.13,11.35 19.13,9.85 16.43,9.85 ; 24.05,9.85 24.05,11.35 26.75,11.35 26.75,9.85 24.05,9.85
  text "1" at -20.57,1.35 h1.26
Mechanical 16:
  lines w0.203: -22.82,-3.65 30.42,-3.65 ; -22.67,-6.2 30.42,-6.2 ; -21.27,-3.05 -21.27,0.75 -19.32,0.75 -19.32,-3.05 -21.27,-3.05 ; -13.65,-3.05 -13.65,0.75 -11.7,0.75 -11.7,-3.05 -13.65,-3.05 ; -6.03,-3.05 -6.03,0.75 -4.08,0.75 -4.08,-3.05 -6.03,-3.05 ; 1.59,-3.05 1.59,0.75 3.54,0.75 3.54,-3.05 1.59,-3.05 ; 9.21,-3.05 9.21,0.75 11.16,0.75 11.16,-3.05 9.21,-3.05 ; 16.83,-3.05 16.83,0.75 18.78,0.75 18.78,-3.05 16.83,-3.05 ; 24.45,-3.05 24.45,0.75 26.4,0.75 26.4,-3.05 24.45,-3.05

## 255-407-1000 [mm]
pads (14):
  oval 1.8x3.6 hole 1.2: A1(-27.5,0) A2(-17.5,0) A3(-7.5,0) A4(2.5,0) A5(12.5,0) A6(22.5,0) A7(32.5,0) B1(-27.5,-5) B2(-17.5,-5) B3(-7.5,-5) B4(2.5,-5) B5(12.5,-5) B6(22.5,-5) B7(32.5,-5)
Top Overlay:
  lines w0.203: -30.7,-3.65 -30,-3.65 ; -30.65,2.65 41.6,2.65 ; -30.05,7.55 -30.05,-6.2 ; -29.85,7.55 -29.85,-6.2 -30.05,-6.2 ; -28.125,7.575 -30.7,7.575 -30.7,7.05 -31.05,7.05 -31.05,6.05 -30.7,6.05 -30.7,-0.55 -31.05,-0.55 -31.05,-2.35 -30.7,-2.35 -30.7,-4.35 -31.05,-4.35 -31.05,-5.35 -30.7,-5.35 -30.7,-6.2 -30.05,-6.2 ; -26.825,7.575 -18.125,7.575 ; -20.1,-6.2 -20.1,7.55 ; -19.9,-6.2 -19.9,7.55 ; -16.825,7.575 -8.125,7.575 ; -10.1,-6.2 -10.1,7.55 ; -9.9,-6.2 -9.9,7.55 ; -6.825,7.575 1.875,7.575 ; -0.1,-6.2 -0.1,7.55 ; 0.1,-6.2 0.1,7.55 ; 3.175,7.575 11.875,7.575 ; 9.9,-6.2 9.9,7.55 ; 10.1,-6.2 10.1,7.55 ; 13.175,7.575 21.875,7.575 ; 19.9,-6.2 19.9,7.55 ; 20.1,-6.2 20.1,7.55 ; 23.175,7.575 31.875,7.575 ; 29.9,-6.2 29.9,7.55 ; 30.1,-6.2 30.1,7.55 ; 33.125,7.575 41.625,7.575 ; 39.9,7.55 39.9,-6.2 41.65,-6.2 41.65,-5.35 41.3,-5.35 41.3,-4.35 41.65,-4.35 41.65,-3.65 ; 39.95,-3.65 41.65,-3.65 ; 41.65,7.55 41.65,7.05 41.3,7.05 41.3,6.05 41.65,6.05 41.65,-0.55 41.3,-0.55 41.3,-2.35 41.65,-2.35 41.65,-3.65 ; -28.1,9.35 -29.8,9.35 -29.8,11.85 -25.2,11.85 -25.2,9.35 -26.9,9.35 ; -28.1,9.35 -26.9,9.35 ; -28.1,9.35 -28.1,6.7 -26.9,6.7 -26.9,9.35 ; -18.1,9.35 -19.8,9.35 -19.8,11.85 -15.2,11.85 -15.2,9.35 -16.9,9.35 ; -18.1,9.35 -16.9,9.35 ; -18.1,9.35 -18.1,6.7 -16.9,6.7 -16.9,9.35 ; -8.1,9.35 -9.8,9.35 -9.8,11.85 -5.2,11.85 -5.2,9.35 -6.9,9.35 ; -8.1,9.35 -6.9,9.35 ; -8.1,9.35 -8.1,6.7 -6.9,6.7 -6.9,9.35 ; 1.9,9.35 0.2,9.35 0.2,11.85 4.8,11.85 4.8,9.35 3.1,9.35 ; 1.9,9.35 3.1,9.35 ; 1.9,9.35 1.9,6.7 3.1,6.7 3.1,9.35 ; 11.9,9.35 10.2,9.35 10.2,11.85 14.8,11.85 14.8,9.35 13.1,9.35 ; 11.9,9.35 13.1,9.35 ; 11.9,9.35 11.9,6.7 13.1,6.7 13.1,9.35 ; 21.9,9.35 20.2,9.35 20.2,11.85 24.8,11.85 24.8,9.35 23.1,9.35 ; 21.9,9.35 23.1,9.35 ; 21.9,9.35 21.9,6.7 23.1,6.7 23.1,9.35 ; 31.9,9.35 30.2,9.35 30.2,11.85 34.8,11.85 34.8,9.35 33.1,9.35 ; 31.9,9.35 33.1,9.35 ; 31.9,9.35 31.9,6.7 33.1,6.7 33.1,9.35 ; -28.85,9.85 -28.85,11.35 -26.15,11.35 -26.15,9.85 -28.85,9.85 ; -18.85,9.85 -18.85,11.35 -16.15,11.35 -16.15,9.85 -18.85,9.85 ; -8.85,9.85 -8.85,11.35 -6.15,11.35 -6.15,9.85 -8.85,9.85 ; 1.15,9.85 1.15,11.35 3.85,11.35 3.85,9.85 1.15,9.85 ; 11.15,9.85 11.15,11.35 13.85,11.35 13.85,9.85 11.15,9.85 ; 21.15,9.85 21.15,11.35 23.85,11.35 23.85,9.85 21.15,9.85 ; 31.15,9.85 31.15,11.35 33.85,11.35 33.85,9.85 31.15,9.85
  text "1" at -27.75,1.35 h1.26
Mechanical 16:
  lines w0.203: -30,-3.65 39.9,-3.65 ; -29.85,-6.2 39.9,-6.2 ; -28.45,-3.05 -28.45,0.75 -26.5,0.75 -26.5,-3.05 -28.45,-3.05 ; -18.5,-3.05 -18.5,0.75 -16.5,0.75 -16.5,-3.05 -18.5,-3.05 ; -8.5,-3.05 -8.5,0.75 -6.5,0.75 -6.5,-3.05 -8.5,-3.05 ; 1.5,-3.05 1.5,0.75 3.5,0.75 3.5,-3.05 1.5,-3.05 ; 11.5,-3.05 11.5,0.75 13.5,0.75 13.5,-3.05 11.5,-3.05 ; 21.5,-3.05 21.5,0.75 23.5,0.75 23.5,-3.05 21.5,-3.05 ; 31.5,-3.05 31.5,0.75 33.5,0.75 33.5,-3.05 31.5,-3.05

## 255-407-1016 [mm]
pads (14):
  oval 1.8x3.6 hole 1.2: A1(-27.94,0) A2(-17.78,0) A3(-7.62,0) A4(2.54,0) A5(12.7,0) A6(22.86,0) A7(33.02,0) B1(-27.94,-5) B2(-17.78,-5) B3(-7.62,-5) B4(2.54,-5) B5(12.7,-5) B6(22.86,-5) B7(33.02,-5)
Top Overlay:
  lines w0.203: -31.14,-3.65 -30.44,-3.65 ; -31.09,2.65 42.28,2.65 ; -30.49,7.55 -30.49,-6.2 ; -30.29,7.55 -30.29,-6.2 -30.49,-6.2 ; -28.565,7.575 -31.14,7.575 -31.14,7.05 -31.49,7.05 -31.49,6.05 -31.14,6.05 -31.14,-0.55 -31.49,-0.55 -31.49,-2.35 -31.14,-2.35 -31.14,-4.35 -31.49,-4.35 -31.49,-5.35 -31.14,-5.35 -31.14,-6.2 -30.49,-6.2 ; -27.315,7.575 -18.401,7.575 ; -20.38,-6.2 -20.38,7.55 ; -20.18,-6.2 -20.18,7.55 ; -17.155,7.575 -8.241,7.575 ; -10.22,-6.2 -10.22,7.55 ; -10.02,-6.2 -10.02,7.55 ; -6.995,7.575 1.919,7.575 ; -0.06,-6.2 -0.06,7.55 ; 0.14,-6.2 0.14,7.55 ; 3.165,7.575 12.079,7.575 ; 10.1,-6.2 10.1,7.55 ; 10.3,-6.2 10.3,7.55 ; 13.325,7.575 22.239,7.575 ; 20.26,-6.2 20.26,7.55 ; 20.46,-6.2 20.46,7.55 ; 23.485,7.575 32.399,7.575 ; 30.42,-6.2 30.42,7.55 ; 30.62,-6.2 30.62,7.55 ; 33.645,7.575 42.305,7.575 ; 40.58,7.55 40.58,-6.2 42.33,-6.2 42.33,-5.35 41.98,-5.35 41.98,-4.35 42.33,-4.35 42.33,-3.65 ; 40.63,-3.65 42.33,-3.65 ; 40.78,-6.2 40.78,7.55 ; 42.33,7.55 42.33,7.05 41.98,7.05 41.98,6.05 42.33,6.05 42.33,-0.55 41.98,-0.55 41.98,-2.35 42.33,-2.35 42.33,-3.65 ; -28.54,9.35 -30.24,9.35 -30.24,11.85 -25.64,11.85 -25.64,9.35 -27.34,9.35 ; -28.54,9.35 -27.34,9.35 ; -28.54,9.35 -28.54,6.7 -27.34,6.7 -27.34,9.35 ; -18.38,9.35 -20.08,9.35 -20.08,11.85 -15.48,11.85 -15.48,9.35 -17.18,9.35 ; -18.38,9.35 -17.18,9.35 ; -18.38,9.35 -18.38,6.7 -17.18,6.7 -17.18,9.35 ; -8.22,9.35 -9.92,9.35 -9.92,11.85 -5.32,11.85 -5.32,9.35 -7.02,9.35 ; -8.22,9.35 -7.02,9.35 ; -8.22,9.35 -8.22,6.7 -7.02,6.7 -7.02,9.35 ; 1.94,9.35 0.24,9.35 0.24,11.85 4.84,11.85 4.84,9.35 3.14,9.35 ; 1.94,9.35 3.14,9.35 ; 1.94,9.35 1.94,6.7 3.14,6.7 3.14,9.35 ; 12.1,9.35 10.4,9.35 10.4,11.85 15,11.85 15,9.35 13.3,9.35 ; 12.1,9.35 13.3,9.35 ; 12.1,9.35 12.1,6.7 13.3,6.7 13.3,9.35 ; 22.26,9.35 20.56,9.35 20.56,11.85 25.16,11.85 25.16,9.35 23.46,9.35 ; 22.26,9.35 23.46,9.35 ; 22.26,9.35 22.26,6.7 23.46,6.7 23.46,9.35 ; 32.42,9.35 30.72,9.35 30.72,11.85 35.32,11.85 35.32,9.35 33.62,9.35 ; 32.42,9.35 33.62,9.35 ; 32.42,9.35 32.42,6.7 33.62,6.7 33.62,9.35 ; -29.29,9.85 -29.29,11.35 -26.59,11.35 -26.59,9.85 -29.29,9.85 ; -19.13,9.85 -19.13,11.35 -16.43,11.35 -16.43,9.85 -19.13,9.85 ; -8.97,9.85 -8.97,11.35 -6.27,11.35 -6.27,9.85 -8.97,9.85 ; 1.19,9.85 1.19,11.35 3.89,11.35 3.89,9.85 1.19,9.85 ; 11.35,9.85 11.35,11.35 14.05,11.35 14.05,9.85 11.35,9.85 ; 21.51,9.85 21.51,11.35 24.21,11.35 24.21,9.85 21.51,9.85 ; 31.67,9.85 31.67,11.35 34.37,11.35 34.37,9.85 31.67,9.85
  text "1" at -28.19,1.35 h1.26
Mechanical 16:
  lines w0.203: -30.44,-3.65 40.58,-3.65 ; -30.29,-6.2 40.58,-6.2 ; -28.89,-3.05 -28.89,0.75 -26.94,0.75 -26.94,-3.05 -28.89,-3.05 ; -18.73,-3.05 -18.73,0.75 -16.78,0.75 -16.78,-3.05 -18.73,-3.05 ; -8.57,-3.05 -8.57,0.75 -6.62,0.75 -6.62,-3.05 -8.57,-3.05 ; 1.59,-3.05 1.59,0.75 3.54,0.75 3.54,-3.05 1.59,-3.05 ; 11.75,-3.05 11.75,0.75 13.7,0.75 13.7,-3.05 11.75,-3.05 ; 21.91,-3.05 21.91,0.75 23.86,0.75 23.86,-3.05 21.91,-3.05 ; 32.07,-3.05 32.07,0.75 34.02,0.75 34.02,-3.05 32.07,-3.05

## 255-408-5 [mm]
pads (16):
  oval 1.8x3.6 hole 1.2: A1(-17.5,0) A2(-12.5,0) A3(-7.5,0) A4(-2.5,0) A5(2.5,0) A6(7.5,0) A7(12.5,0) A8(17.5,0) B1(-17.5,-5) B2(-12.5,-5) B3(-7.5,-5) B4(-2.5,-5) B5(2.5,-5) B6(7.5,-5) B7(12.5,-5) B8(17.5,-5)
Top Overlay:
  drawing of 196 lines, arcs and shapes, not listed
  text "1" at -17.75,1.35 h1.26
Mechanical 16:
  lines w0.203: -20,-3.65 19.9,-3.65 ; -19.85,-6.2 19.9,-6.2 ; -18.45,-3.05 -18.45,0.75 -16.5,0.75 -16.5,-3.05 -18.45,-3.05 ; -13.5,-3.05 -13.5,0.75 -11.5,0.75 -11.5,-3.05 -13.5,-3.05 ; -8.5,-3.05 -8.5,0.75 -6.5,0.75 -6.5,-3.05 -8.5,-3.05 ; -3.5,-3.05 -3.5,0.75 -1.5,0.75 -1.5,-3.05 -3.5,-3.05 ; 1.5,-3.05 1.5,0.75 3.5,0.75 3.5,-3.05 1.5,-3.05 ; 6.5,-3.05 6.5,0.75 8.5,0.75 8.5,-3.05 6.5,-3.05 ; 11.5,-3.05 11.5,0.75 13.5,0.75 13.5,-3.05 11.5,-3.05 ; 16.5,-3.05 16.5,0.75 18.5,0.75 18.5,-3.05 16.5,-3.05